# EAGLE library part ISP_CON (library Philips-semiconductors2)
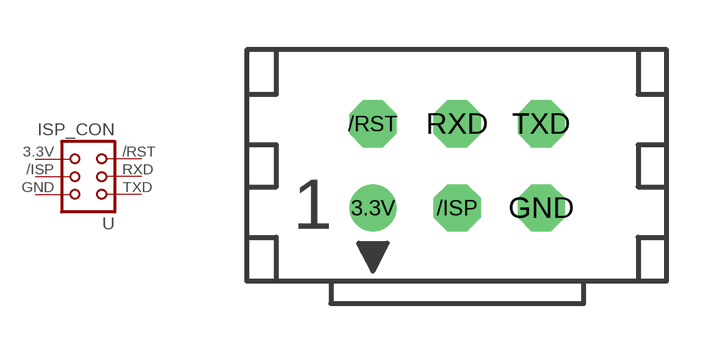
[diagram p49: symbol with the pads of ISP_CON; footprint ISP_CON]

Designator prefix -

## ISP_CON  [ISP_CON]
3.3V  3.3V  pas
/ISP  /ISP  pas
/RST  /RST  pas
GND  GND  pas
RXD  RXD  pas
TXD  TXD  pas

## Footprint ISP_CON (pad centres in mm)
drill 0.914: 3.3V -2.54,-1.27
drill 0.914 octagon: /ISP 0,-1.27; /RST -2.54,1.27; GND 2.54,-1.27; RXD 0,1.27; TXD 2.54,1.27